# Altium footprint library tilepcb.PCBLIB: 58 footprints (part 1 of 4)
Each footprint in its own frame and in the unit in brackets; x right, y up, seen from the top. Pads: shape width x height; smd on the part's side, far side on the other; paste and mask are expansions set on the pad; w line width, h text height; cw(c..) or ccw(c..) is an arc to the next point about the centre after c.
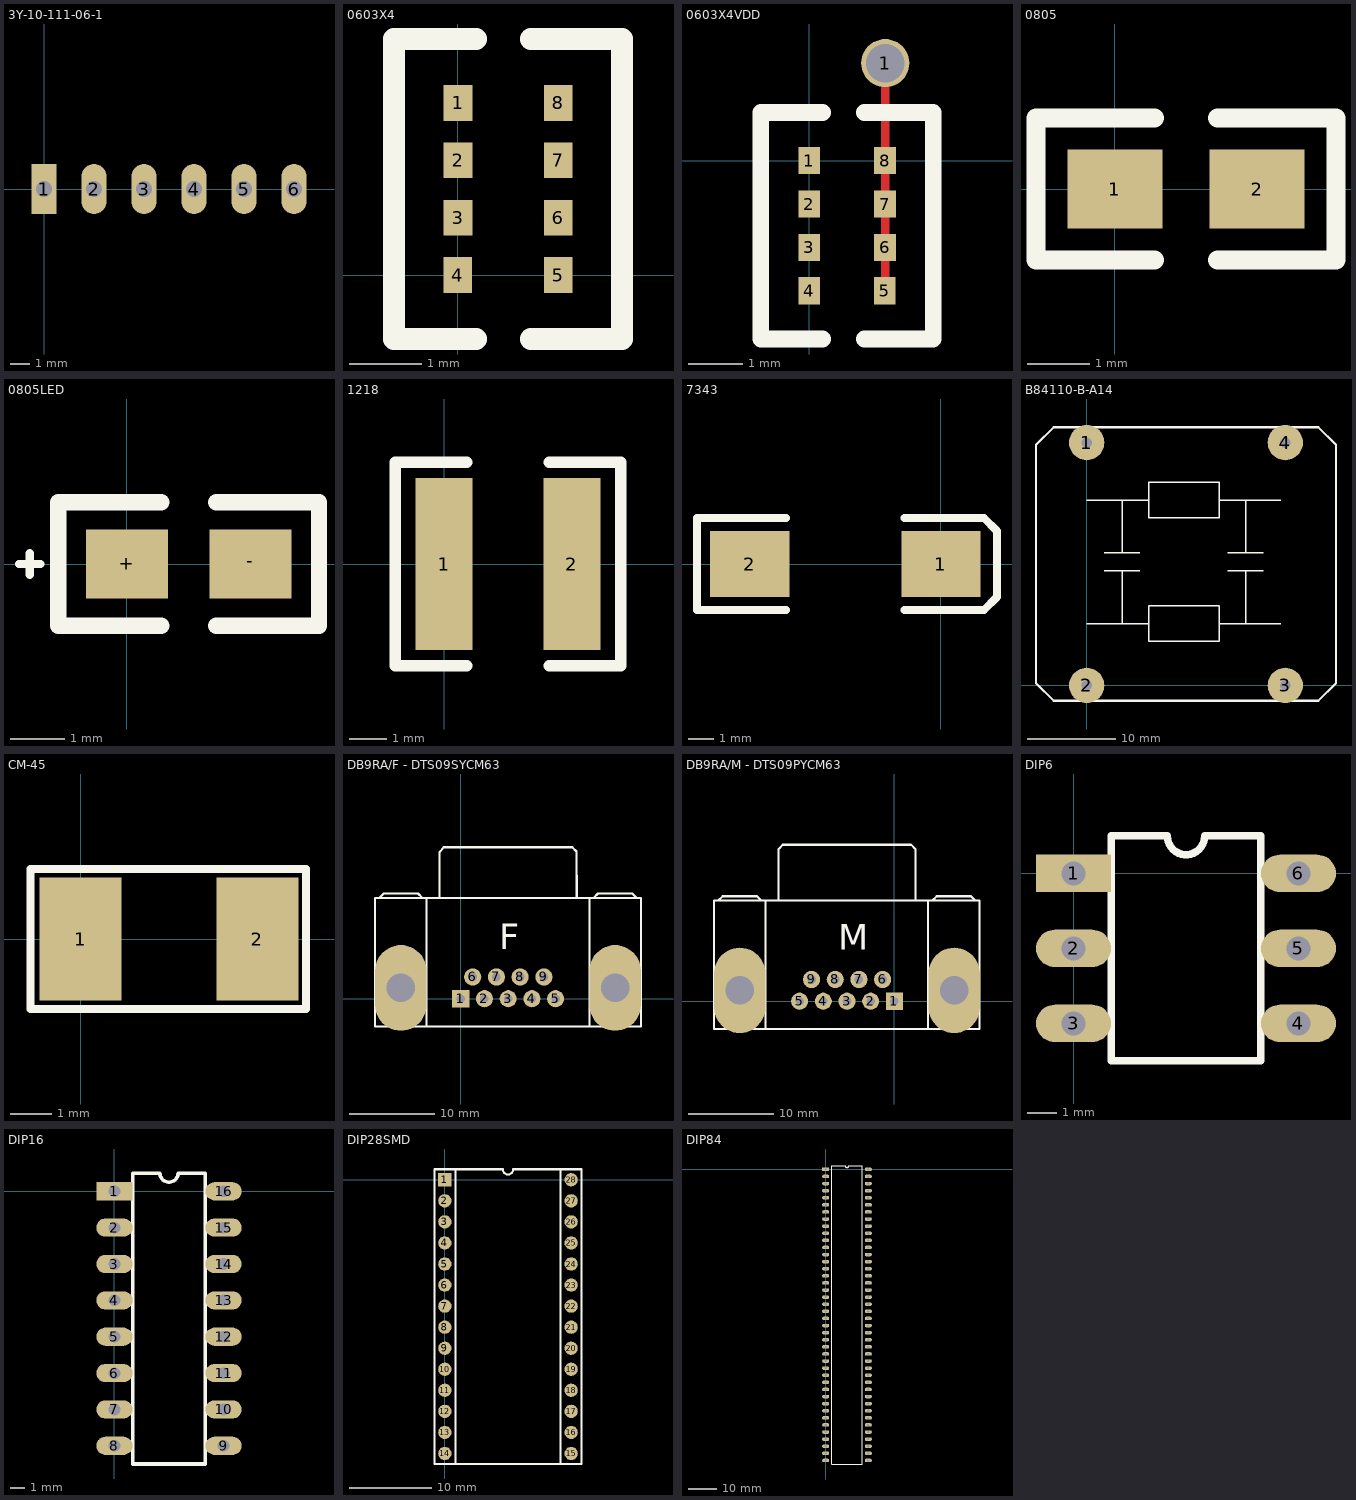
[diagram p0: the footprints below, top view; thin cyan lines are the x and y axes]

## 3Y-10-111-06-1 [mil]
pads (6):
  rect 50x100 hole 32: 1(0,0)
  oval 50x100 hole 32: 2(100,0) 3(200,0) 4(300,0) 5(400,0) 6(500,0)

## 7S-10-011-06-9 [mil]

## 0603X4 [mm]
pads (8):
  rect 0.4x0.5 smd: 1(0.003,2.4) 2(0.003,1.6) 3(0.003,0.8) 4(0,0) 5(1.397,0) 6(1.4,0.8) 7(1.4,1.6) 8(1.4,2.4)
TopOverlay:
  lines w0.305: 0.254,-0.889 -0.889,-0.889 -0.889,3.289 0.254,3.289 ; 1.016,-0.889 2.286,-0.889 2.286,3.289 1.016,3.289

## 0603X4VDD [mm]
pads (9):
  rect 0.4x0.5 smd: 1(0,0) 2(0,-0.8) 3(0,-1.6) 4(-0.003,-2.4) 5(1.394,-2.4) 6(1.397,-1.6) 7(1.397,-0.8) 8(1.397,0)
  round 0.889 hole 0.711: 1(1.4,1.8)
TopLayer:
  lines w0.152: 1.4,-2.4 1.4,1.8
TopOverlay:
  lines w0.305: 0.251,-3.289 -0.892,-3.289 -0.892,0.889 0.251,0.889 ; 1.013,-3.289 2.283,-3.289 2.283,0.889 1.013,0.889

## 0805 [mil]
pads (2):
  rect 60x50 smd: 1(0,0) 2(90,0)
TopOverlay:
  lines w12: 25,-45 -50,-45 -50,45 25,45 ; 65,-45 140,-45 140,45 65,45

## 0805LED [mil]
pads (2):
  rect 60x50 smd: +(0,0) -(90,0)
TopOverlay:
  lines w6: -78.74,0 -62.99,0 ; -70.87,-7.87 -70.87,7.87
  lines w12: 25,-45 -50,-45 -50,45 25,45 ; 65,-45 140,-45 140,45 65,45

## 1218 [mil]
pads (2):
  rect 60x180 smd: 1(0,0) 2(133.86,0)
TopOverlay:
  lines w12: 23.62,-106.3 -51.18,-106.3 -51.18,106.3 23.82,106.3 ; 110.04,106.3 185.04,106.3 185,-105.43 ; 110.24,-106.3 185.04,-106.3

## 7343 [mil]
pads (2):
  rect 120x100 smd: 1(0,0) 2(-290,0)
TopOverlay:
  lines w12: -235,-70 -370,-70 -370,70 -235,70 ; -55,-70 65,-70 85,-50 85,50 65,70 -55,70

## B84110-B-A14 [mm]
pads (4):
  round 4 hole 1.2: 1(0,27.5) 2(0,0) 3(22.5,0) 4(22.5,27.5)
TopOverlay:
  lines w0.152: 0,7 7,7 ; 0,21 7,21 ; 2,13 6,13 ; 2,15 6,15 ; 4,7 4,13 ; 4,15 4,21 ; 16,13 20,13 ; 16,15 20,15 ; 18,7 18,13 ; 18,15 18,21 ; 22,7 15,7 ; 22,21 15,21 ; 7,7 7,5 15,5 15,7 ; 7,7 7,9 15,9 15,7 ; 7,21 7,19 15,19 15,21 ; 7,21 7,23 15,23 15,21
  lines w0.254: -5.75,0.25 -5.75,0.25 ; -5.75,0.25 -3.75,-1.75 ; -5.75,0.25 -5.75,27.25 ; -5.75,0.25 -3.75,-1.75 ; -5.75,27.25 -3.75,29.25 ; -5.75,27.25 -3.75,29.25 ; -5.75,27.25 -5.75,27.25 ; -5.75,27.25 -5.75,27.25 ; -3.75,-1.75 26.25,-1.75 ; -3.75,-1.75 -3.75,-1.75 ; -3.75,29.25 26.25,29.25 ; 26.25,-1.75 28.25,0.25 ; 26.25,-1.75 28.25,0.25 ; 26.25,29.25 28.25,27.25 ; 26.25,29.25 28.25,27.25 ; 28.25,0.25 28.25,27.25

## CM-45 [mm]
pads (2):
  rect 2x3 smd: 1(0,0) 2(4.3,0)
TopOverlay:
  lines w0.2: -1.219,-1.702 5.486,-1.702 5.486,1.702 -1.219,1.702 -1.219,0 -1.219,-1.702

## DB9RA/F - DTS09SYCM63 [mm]
pads (11):
  rect 2x2 hole 1: 1(0,0)
  round 2 hole 1: 2(2.769,0) 3(5.537,0) 4(8.306,0) 5(11.074,0) 6(1.397,2.54) 7(4.166,2.54) 8(6.934,2.54) 9(9.703,2.54)
  oval 6x10 hole 3.3: ""(-6.985,1.27) ""(18.015,1.27)
TopOverlay:
  lines w0.254: -9.485,11.77 -8.985,12.27 -4.985,12.27 -4.485,11.77 ; -3.985,-3.23 -3.985,11.77 ; -2.47,11.77 -2.485,17.07 -1.985,17.67 13.015,17.67 13.515,17.17 13.53,11.77 ; 15.015,-3.23 15.015,11.77 ; 16.515,11.77 15.515,11.77 16.015,12.27 20.015,12.27 20.515,11.77 ; -9.985,-3.23 -9.985,11.77 21.015,11.77 21.015,-3.23 -9.985,-3.23
  text "F" at 4.515,5.77 h3

## DB9RA/M - DTS09PYCM63 [mm]
pads (11):
  rect 2x2 hole 1: 1(0,0)
  round 2 hole 1: 2(-2.769,0) 3(-5.537,0) 4(-8.306,0) 5(-11.074,0) 6(-1.372,2.54) 7(-4.14,2.54) 8(-6.909,2.54) 9(-9.677,2.54)
  oval 6x10 hole 3.3: ""(-18.059,1.27) ""(6.985,1.27)
TopOverlay:
  lines w0.254: -20.559,11.77 -20.059,12.27 -16.059,12.27 -15.559,11.77 ; -15.059,-3.23 -15.059,11.77 ; -13.544,11.77 -13.544,17.77 -13.044,18.27 1.956,18.27 2.456,17.77 2.456,11.77 ; 3.941,-3.23 3.941,11.77 ; 5.441,11.77 4.441,11.77 4.941,12.27 8.941,12.27 9.441,11.77 ; -21.059,-3.23 9.941,-3.23 9.941,11.77 -21.059,11.77 -21.059,-3.23
  text "M" at -6.574,6 h3

## DIP6 [mil]
pads (6):
  rect 100x50 hole 32: 1(0,0)
  oval 100x50 hole 32: 2(0,-100) 3(0,-200) 4(300,-200) 5(300,-100) 6(300,0)
TopOverlay:
  lines w10: 50,-250 250,-250 250,50 175,50 cw(c150,50) 125,50 50,50 50,-250

## DIP16 [mil]
pads (16):
  rect 100x50 hole 32: 1(0,0)
  oval 100x50 hole 32: 2(0,-100) 3(0,-200) 4(0,-300) 5(0,-400) 6(0,-500) 7(0,-600) 8(0,-700) 9(300,-700) 10(300,-600) 11(300,-500) 12(300,-400) 13(300,-300) 14(300,-200) 15(300,-100) 16(300,0)
TopOverlay:
  lines w10: 50,-750 50,50 125,50 ccw(c150,50) 175,50 250,50 250,-750 50,-750

## DIP28SMD [mil]
pads (28):
  rect 63x63 smd: 1(0,0)
  round 63 smd: 2(0,-100) 3(0,-200) 4(0,-300) 5(0,-400) 6(0,-500) 7(0,-600) 8(0,-700) 9(0,-800) 10(0,-900) 11(0,-1000) 12(0,-1100) 13(0,-1200) 14(0,-1300) 15(600,-1300) 16(600,-1200) 17(600,-1100) 18(600,-1000) 19(600,-900) 20(600,-800) 21(600,-700) 22(600,-600) 23(600,-500) 24(600,-400) 25(600,-300) 26(600,-200) 27(600,-100) 28(600,0)
TopOverlay:
  lines w10: 50,50 -50,50 -50,-1350 650,-1350 650,50 550,50 ; 50,50 50,-1350 550,-1350 550,50 ; 50,50 275,50 ccw(c300,50) 325,50 550,50

## DIP84 [mil]
pads (84):
  rect 100x50 hole 30: 1(0,0)
  oval 100x50 hole 30: 2(0,-100) 3(0,-200) 4(0,-300) 5(0,-400) 6(0,-500) 7(0,-600) 8(0,-700) 9(0,-800) 10(0,-900) 11(0,-1000) 12(0,-1100) 13(0,-1200) 14(0,-1300) 15(0,-1400) 16(0,-1500) 17(0,-1600) 18(0,-1700) 19(0,-1800) 20(0,-1900) 21(0,-2000) 22(0,-2100) 23(0,-2200) 24(0,-2300) 25(0,-2400) 26(0,-2500) 27(0,-2600) 28(0,-2700) 29(0,-2800) 30(0,-2900) 31(0,-3000) 32(0,-3100) 33(0,-3200) 34(0,-3300) 35(0,-3400) 36(0,-3500) 37(0,-3600) 38(0,-3700) 39(0,-3800) 40(0,-3900) 41(0,-4000) 42(0,-4100) 43(600,-4100) 44(600,-4000) 45(600,-3900) 46(600,-3800) 47(600,-3700) 48(600,-3600) 49(600,-3500) 50(600,-3400) 51(600,-3300) 52(600,-3200) 53(600,-3100) 54(600,-3000) 55(600,-2900) 56(600,-2800) 57(600,-2700) 58(600,-2600) 59(600,-2500) 60(600,-2400) 61(600,-2300) 62(600,-2200) 63(600,-2100) 64(600,-2000) 65(600,-1900) 66(600,-1800) 67(600,-1700) 68(600,-1600) 69(600,-1500) 70(600,-1400) 71(600,-1300) 72(600,-1200) 73(600,-1100) 74(600,-1000) 75(600,-900) 76(600,-800) 77(600,-700) 78(600,-600) 79(600,-500) 80(600,-400) 81(600,-300) 82(600,-200) 83(600,-100) 84(600,0)
TopOverlay:
  lines w10: 85,-4150 85,50 275,50 ccw(c300,50) 325,50 515,50 515,-4150 85,-4150